# Altium schematic symbol library HT_SHUIHU.SchLib: 3 symbols
Pins are listed as number, name and electrical type; pins without a type are passive.

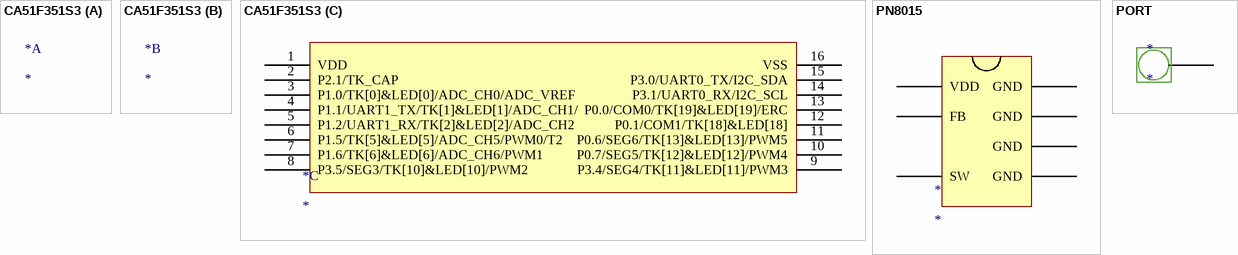
[diagram p0: symbols CA51F351S3 to PORT]

## CA51F351S3
designator *
part C pins: 1 VDD, 2 P2.1/TK_CAP, 3 P1.0/TK[0]&LED[0]/ADC_CH0/ADC_VREF, 4 P1.1/UART1_TX/TK[1]&LED[1]/ADC_CH1/, 5 P1.2/UART1_RX/TK[2]&LED[2]/ADC_CH2, 6 P1.5/TK[5]&LED[5]/ADC_CH5/PWM0/T2, 7 P1.6/TK[6]&LED[6]/ADC_CH6/PWM1, 8 P3.5/SEG3/TK[10]&LED[10]/PWM2, 9 P3.4/SEG4/TK[11]&LED[11]/PWM3, 10 P0.7/SEG5/TK[12]&LED[12]/PWM4, 11 P0.6/SEG6/TK[13]&LED[13]/PWM5, 12 P0.1/COM1/TK[18]&LED[18], 13 P0.0/COM0/TK[19]&LED[19]/ERC, 14 P3.1/UART0_RX/I2C_SCL, 15 P3.0/UART0_TX/I2C_SDA, 16 VSS

## PN8015
designator *
pins: 1 VDD, 2 FB, 3 SW, 4 GND, 5 GND, 6 GND, 7 GND

## PORT
designator *
pins: 1 P